# Altium integrated library NSC Switch Caps.IntLib: 64 symbols (part 1 of 2)
Pins are listed as number, name and electrical type; pins without a type are passive.

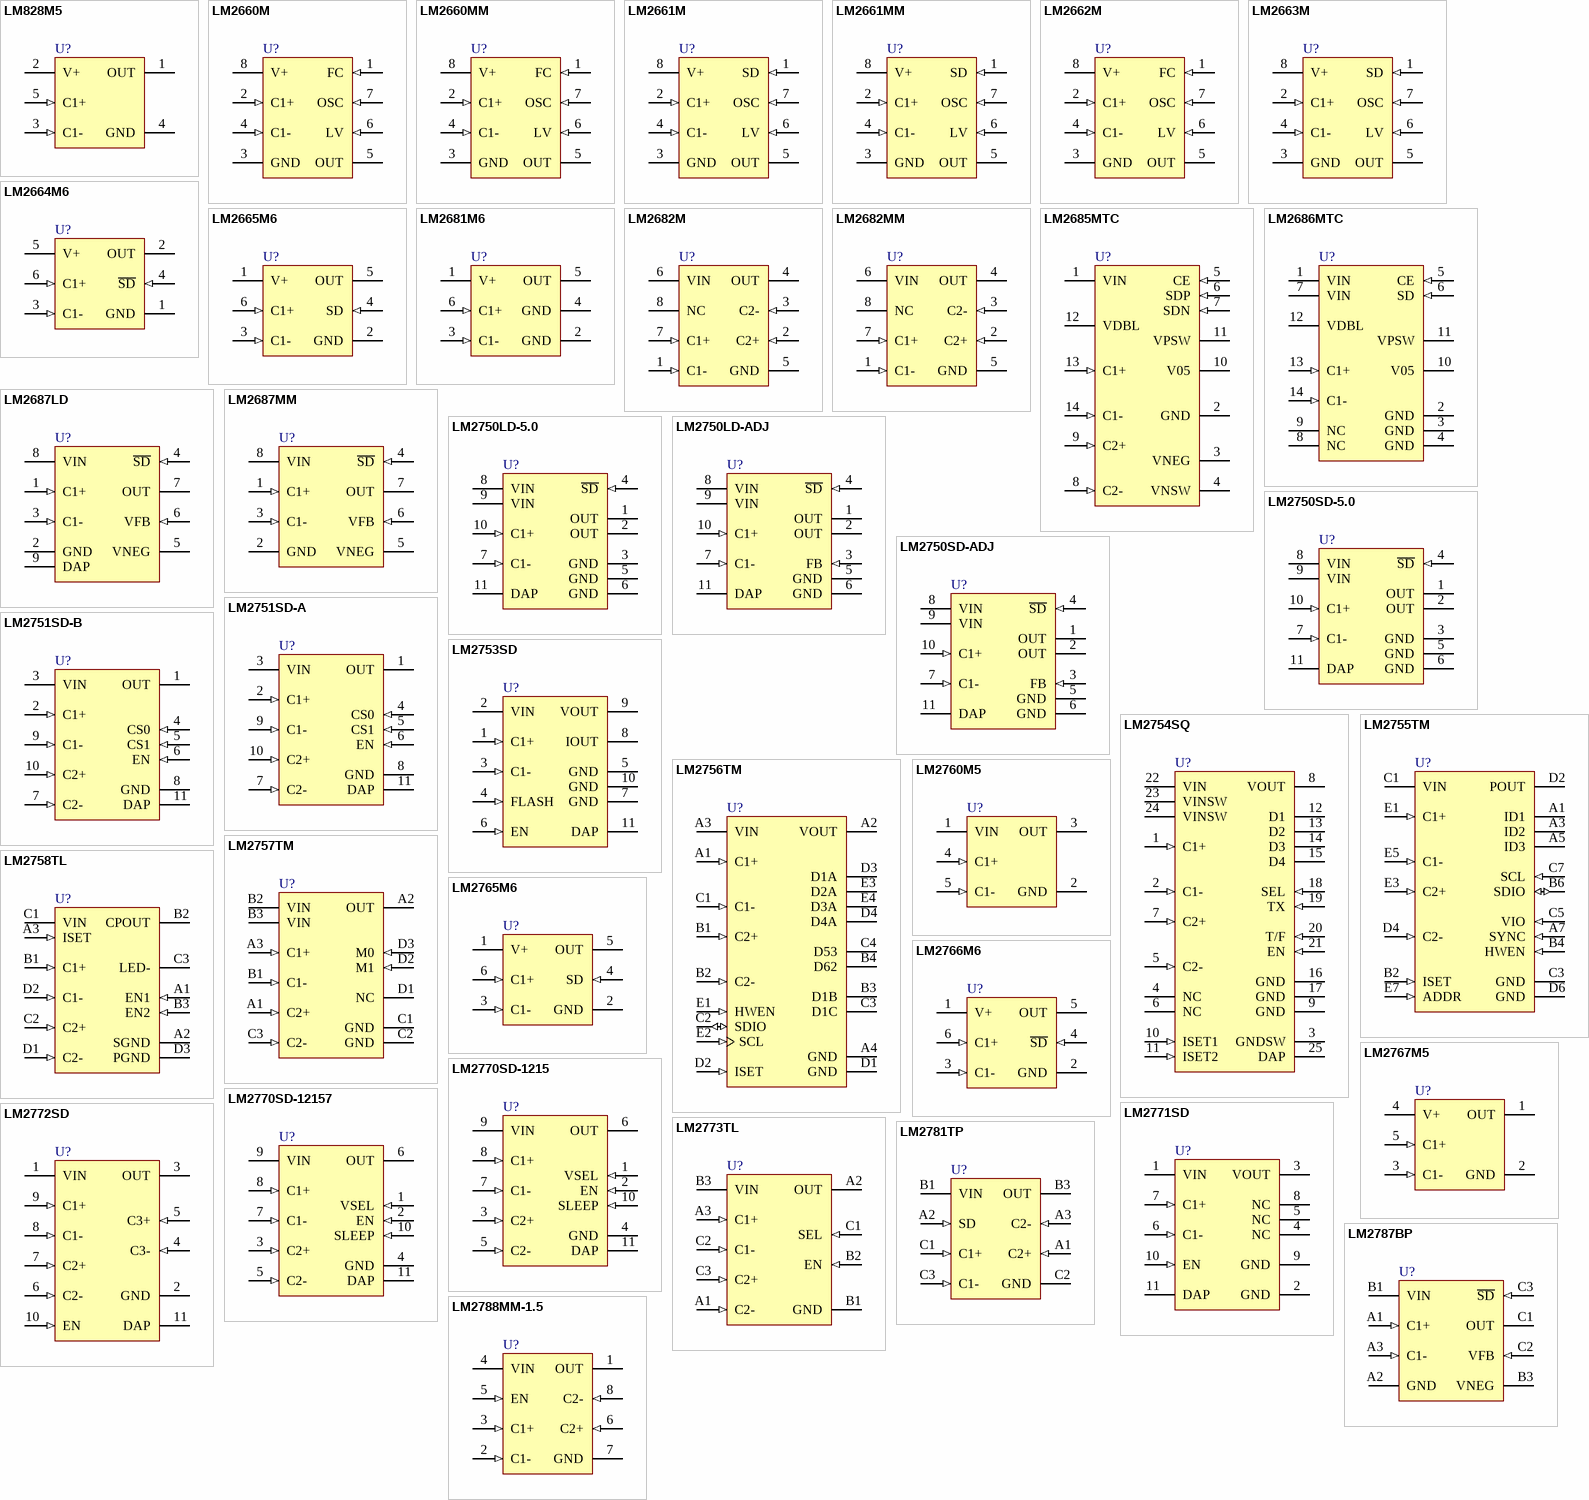
[diagram p0: symbols LM828M5 to LM2788MM-1.5]

## LM828M5
designator U?
Switched Capacitor Voltage Converter; PartNumber: LM828M5; Manufacturer: National Semiconductor; CompType: Switch Caps; PackageTopMarking: S08A*XTT; PowerWise: N; Published: 4-Dec-2008; DatasheetVersion: Jul-2000; PackageVersion: revD, Aug-2008; PackageReference: MF05A; Publisher: Altium Limited; PackageDescription: Molded SOT-23, .115 x .063 x .040 in Body, 5 Lead, .0375 in Pitch; RoHS: O; PinCount: 5; DigiKeyPartNumber: LM828M5CT-ND; Code_IPC: SOT23-5; ComponentLink1Description: LM828 Datasheet; ComponentLink1URL: http://www.national.com/ds/LM/LM828.pdf; ComponentLink2Description: LM828 Web Page; ComponentLink2URL: http://www.national.com/pf/LM/LM828.html; ComponentLink3Description: MF05A Package Page; ComponentLink3URL: http://www.national.com/packaging/folders/mf05a.html
footprint MF05A_N (SOT23, 5-Leads, Body 2.9x1.6mm, Pitch 0.95mm, Lead Span 2.8mm, IPC Medium Density)
footprint MF05A_L (SOT23, 5-Leads, Body 2.9x1.6mm, Pitch 0.95mm, Lead Span 2.8mm, IPC High Density)
footprint MF05A_M (SOT23, 5-Leads, Body 2.9x1.6mm, Pitch 0.95mm, Lead Span 2.8mm, IPC Low Density)
pins: 1 OUT (power), 2 V+ (power), 3 C1- (in), 4 GND (power), 5 C1+ (in)

## LM2660M
designator U?
Switched Capacitor Voltage Converter; PartNumber: LM2660M; Manufacturer: National Semiconductor; CompType: Switch Caps; PackageTopMarking: NSZXTT*LM26*60M; PowerWise: N; Published: 4-Dec-2008; DatasheetVersion: Sep-1999; PackageVersion: revL, Sep-2006; PackageReference: M08A; Publisher: Altium Limited; PackageDescription: SOIC Narrow, 4.9 x 3.9 x 1.45mm, 8 Lead, 1.27mm Pitch; RoHS: O; PinCount: 8; DigiKeyPartNumber: LM2660M-ND; Code_JEDEC: MS-012-AA; Code_IPC: SOIC127P600-8; ComponentLink1Description: LM2660 Datasheet; ComponentLink1URL: http://www.national.com/ds/LM/LM2660.pdf; ComponentLink2Description: LM2660 Web Page; ComponentLink2URL: http://www.national.com/pf/LM/LM2660.html; ComponentLink3Description: M08A Package Page; ComponentLink3URL: http://www.national.com/packaging/folders/m08a.html
footprint M08A_N (SOIC, 8-Leads, Body 4.9x3.9mm, Pitch 1.27mm, IPC Medium Density)
footprint M08A_L (SOIC, 8-Leads, Body 4.9x3.9mm, Pitch 1.27mm, IPC High Density)
footprint M08A_M (SOIC, 8-Leads, Body 4.9x3.9mm, Pitch 1.27mm, IPC Low Density)
pins: 1 FC (in), 2 C1+ (in), 3 GND (power), 4 C1- (in), 5 OUT (power), 6 LV (in), 7 OSC (in), 8 V+ (power)

## LM2660MM
designator U?
Switched Capacitor Voltage Converter; PartNumber: LM2660MM; Manufacturer: National Semiconductor; CompType: Switch Caps; PackageTopMarking: ZXTT*S01A; PowerWise: N; Published: 4-Dec-2008; DatasheetVersion: Sep-1999; PackageVersion: revF, Apr-2008; PackageReference: MUA08A; Publisher: Altium Limited; PackageDescription: MINI SOIC, .118 x .118 x .034in, 8 Lead, .0256in Pitch; RoHS: O; PinCount: 8; DigiKeyPartNumber: LM2660MMCT-ND; Code_JEDEC: MO-187-AA; ComponentLink1Description: LM2660 Datasheet; ComponentLink1URL: http://www.national.com/ds/LM/LM2660.pdf; ComponentLink2Description: LM2660 Web Page; ComponentLink2URL: http://www.national.com/pf/LM/LM2660.html; ComponentLink3Description: MUA08A Package Page; ComponentLink3URL: http://www.national.com/packaging/folders/mua08a.html
footprint MUA08A_N (TSOP, 8-Leads, Body 3x3mm, Pitch 0.65mm, IPC Medium Density)
footprint MUA08A_L (TSOP, 8-Leads, Body 3x3mm, Pitch 0.65mm, IPC High Density)
footprint MUA08A_M (TSOP, 8-Leads, Body 3x3mm, Pitch 0.65mm, IPC Low Density)
pins: 1 FC (in), 2 C1+ (in), 3 GND (power), 4 C1- (in), 5 OUT (power), 6 LV (in), 7 OSC (in), 8 V+ (power)

## LM2661M
designator U?
Switched Capacitor Voltage Converter; PartNumber: LM2661M; Manufacturer: National Semiconductor; CompType: Switch Caps; PackageTopMarking: NSZXTT*LM26*61M; PowerWise: N; Published: 4-Dec-2008; DatasheetVersion: Sep-1999; PackageVersion: revL, Sep-2006; PackageReference: M08A; Publisher: Altium Limited; PackageDescription: SOIC Narrow, 4.9 x 3.9 x 1.45mm, 8 Lead, 1.27mm Pitch; RoHS: O; PinCount: 8; DigiKeyPartNumber: LM2661M-ND; Code_JEDEC: MS-012-AA; Code_IPC: SOIC127P600-8; ComponentLink1Description: LM2661 Datasheet; ComponentLink1URL: http://www.national.com/ds/LM/LM2661.pdf; ComponentLink2Description: LM2661 Web Page; ComponentLink2URL: http://www.national.com/pf/LM/LM2661.html; ComponentLink3Description: M08A Package Page; ComponentLink3URL: http://www.national.com/packaging/folders/m08a.html
footprint M08A_N (SOIC, 8-Leads, Body 4.9x3.9mm, Pitch 1.27mm, IPC Medium Density)
footprint M08A_L (SOIC, 8-Leads, Body 4.9x3.9mm, Pitch 1.27mm, IPC High Density)
footprint M08A_M (SOIC, 8-Leads, Body 4.9x3.9mm, Pitch 1.27mm, IPC Low Density)
pins: 1 SD (in), 2 C1+ (in), 3 GND (power), 4 C1- (in), 5 OUT (power), 6 LV (in), 7 OSC (in), 8 V+ (power)

## LM2661MM
designator U?
Switched Capacitor Voltage Converter; PartNumber: LM2661MM; Manufacturer: National Semiconductor; CompType: Switch Caps; PackageTopMarking: ZXTT*S02A; PowerWise: N; Published: 4-Dec-2008; DatasheetVersion: Sep-1999; PackageVersion: revF, Apr-2008; PackageReference: MUA08A; Publisher: Altium Limited; PackageDescription: MINI SOIC, .118 x .118 x .034in, 8 Lead, .0256in Pitch; RoHS: O; PinCount: 8; DigiKeyPartNumber: LM2661MMCT-ND; Code_JEDEC: MO-187-AA; ComponentLink1Description: LM2661 Datasheet; ComponentLink1URL: http://www.national.com/ds/LM/LM2661.pdf; ComponentLink2Description: LM2661 Web Page; ComponentLink2URL: http://www.national.com/pf/LM/LM2661.html; ComponentLink3Description: MUA08A Package Page; ComponentLink3URL: http://www.national.com/packaging/folders/mua08a.html
footprint MUA08A_N (TSOP, 8-Leads, Body 3x3mm, Pitch 0.65mm, IPC Medium Density)
footprint MUA08A_L (TSOP, 8-Leads, Body 3x3mm, Pitch 0.65mm, IPC High Density)
footprint MUA08A_M (TSOP, 8-Leads, Body 3x3mm, Pitch 0.65mm, IPC Low Density)
pins: 1 SD (in), 2 C1+ (in), 3 GND (power), 4 C1- (in), 5 OUT (power), 6 LV (in), 7 OSC (in), 8 V+ (power)

## LM2662M
designator U?
Switched Capacitor Voltage Converter; PartNumber: LM2662M; Manufacturer: National Semiconductor; CompType: Switch Caps; PackageTopMarking: NSZXTT*LM26*62M; PowerWise: N; Published: 4-Dec-2008; DatasheetVersion: Jun-2008; PackageVersion: revL, Sep-2006; PackageReference: M08A; Publisher: Altium Limited; PackageDescription: SOIC Narrow, 4.9 x 3.9 x 1.45mm, 8 Lead, 1.27mm Pitch; RoHS: O; PinCount: 8; DigiKeyPartNumber: LM2662M-ND; Code_JEDEC: MS-012-AA; Code_IPC: SOIC127P600-8; ComponentLink1Description: LM2662 Datasheet; ComponentLink1URL: http://www.national.com/ds/LM/LM2662.pdf; ComponentLink2Description: LM2662 Web Page; ComponentLink2URL: http://www.national.com/pf/LM/LM2662.html; ComponentLink3Description: M08A Package Page; ComponentLink3URL: http://www.national.com/packaging/folders/m08a.html
footprint M08A_N (SOIC, 8-Leads, Body 4.9x3.9mm, Pitch 1.27mm, IPC Medium Density)
footprint M08A_L (SOIC, 8-Leads, Body 4.9x3.9mm, Pitch 1.27mm, IPC High Density)
footprint M08A_M (SOIC, 8-Leads, Body 4.9x3.9mm, Pitch 1.27mm, IPC Low Density)
pins: 1 FC (in), 2 C1+ (in), 3 GND (power), 4 C1- (in), 5 OUT (power), 6 LV (in), 7 OSC (in), 8 V+ (power)

## LM2663M
designator U?
Switched Capacitor Voltage Converter; PartNumber: LM2663M; Manufacturer: National Semiconductor; CompType: Switch Caps; PackageTopMarking: NSZXTT*LM26*63M; PowerWise: N; Published: 4-Dec-2008; DatasheetVersion: Jun-2008; PackageVersion: revL, Sep-2006; PackageReference: M08A; Publisher: Altium Limited; PackageDescription: SOIC Narrow, 4.9 x 3.9 x 1.45mm, 8 Lead, 1.27mm Pitch; RoHS: O; PinCount: 8; DigiKeyPartNumber: LM2663M-ND; Code_JEDEC: MS-012-AA; Code_IPC: SOIC127P600-8; ComponentLink1Description: LM2663 Datasheet; ComponentLink1URL: http://www.national.com/ds/LM/LM2662.pdf; ComponentLink2Description: LM2663 Web Page; ComponentLink2URL: http://www.national.com/pf/LM/LM2663.html; ComponentLink3Description: M08A Package Page; ComponentLink3URL: http://www.national.com/packaging/folders/m08a.html
footprint M08A_N (SOIC, 8-Leads, Body 4.9x3.9mm, Pitch 1.27mm, IPC Medium Density)
footprint M08A_L (SOIC, 8-Leads, Body 4.9x3.9mm, Pitch 1.27mm, IPC High Density)
footprint M08A_M (SOIC, 8-Leads, Body 4.9x3.9mm, Pitch 1.27mm, IPC Low Density)
pins: 1 SD (in), 2 C1+ (in), 3 GND (power), 4 C1- (in), 5 OUT (power), 6 LV (in), 7 OSC (in), 8 V+ (power)

## LM2664M6
designator U?
Switched Capacitor Voltage Converter; PartNumber: LM2664M6; Manufacturer: National Semiconductor; CompType: Switch Caps; PackageTopMarking: S03A*XTT; PowerWise: N; Published: 4-Dec-2008; DatasheetVersion: Sep-2005; PackageVersion: revC, Sep-2005; PackageReference: MF06A; Publisher: Altium Limited; PackageDescription: Molded SOT-23, .115 x .063 x .040in Body, 6 Lead, .0375in in Pitch; RoHS: O; PinCount: 6; DigiKeyPartNumber: LM2664M6CT-ND; Code_JEDEC: MO-178-AB; Code_IPC: SOT26A-6; ComponentLink1Description: LM2664 Datasheet; ComponentLink1URL: http://www.national.com/ds/LM/LM2664.pdf; ComponentLink2Description: LM2664 Web Page; ComponentLink2URL: http://www.national.com/pf/LM/LM2664.html; ComponentLink3Description: MF06A Package Page; ComponentLink3URL: http://www.national.com/packaging/folders/mf06a.html
footprint MF06A_N (SOT23, 6-Leads, Body 2.9x1.6mm, Pitch 0.95mm, Lead Span 2.8mm, IPC Medium Density)
footprint MF06A_L (SOT23, 6-Leads, Body 2.9x1.6mm, Pitch 0.95mm, Lead Span 2.8mm, IPC High Density)
footprint MF06A_M (SOT23, 6-Leads, Body 2.9x1.6mm, Pitch 0.95mm, Lead Span 2.8mm, IPC Low Density)
pins: 1 GND (power), 2 OUT (power), 3 C1- (in), 4 ~{SD} (in), 5 V+ (power), 6 C1+ (in)

## LM2665M6
designator U?
Switched Capacitor Voltage Converter; PartNumber: LM2665M6; Manufacturer: National Semiconductor; CompType: Switch Caps; PackageTopMarking: S04A*XTT; PowerWise: N; Published: 4-Dec-2008; DatasheetVersion: Sep-2005; PackageVersion: revC, Sep-2005; PackageReference: MF06A; Publisher: Altium Limited; PackageDescription: Molded SOT-23, .115 x .063 x .040in Body, 6 Lead, .0375in in Pitch; RoHS: Y; PinCount: 6; DigiKeyPartNumber: LM2665M6CT-ND; Code_JEDEC: MO-178-AB; Code_IPC: SOT26A-6; ComponentLink1Description: LM2665 Datasheet; ComponentLink1URL: http://www.national.com/ds/LM/LM2665.pdf; ComponentLink2Description: LM2665 Web Page; ComponentLink2URL: http://www.national.com/pf/LM/LM2665.html; ComponentLink3Description: MF06A Package Page; ComponentLink3URL: http://www.national.com/packaging/folders/mf06a.html
footprint MF06A_N (SOT23, 6-Leads, Body 2.9x1.6mm, Pitch 0.95mm, Lead Span 2.8mm, IPC Medium Density)
footprint MF06A_L (SOT23, 6-Leads, Body 2.9x1.6mm, Pitch 0.95mm, Lead Span 2.8mm, IPC High Density)
footprint MF06A_M (SOT23, 6-Leads, Body 2.9x1.6mm, Pitch 0.95mm, Lead Span 2.8mm, IPC Low Density)
pins: 1 V+ (power), 2 GND (power), 3 C1- (in), 4 SD (in), 5 OUT (power), 6 C1+ (in)

## LM2681M6
designator U?
Switched Capacitor Voltage Converter; PartNumber: LM2681M6; Manufacturer: National Semiconductor; CompType: Switch Caps; PackageTopMarking: S10A*XTT; PowerWise: N; Published: 4-Dec-2008; DatasheetVersion: Jan-2003; PackageVersion: revC, Sep-2005; PackageReference: MF06A; Publisher: Altium Limited; PackageDescription: Molded SOT-23, .115 x .063 x .040in Body, 6 Lead, .0375in in Pitch; RoHS: O; PinCount: 6; DigiKeyPartNumber: LM2681M6CT-ND; Code_JEDEC: MO-178-AB; Code_IPC: SOT26A-6; ComponentLink1Description: LM2681 Datasheet; ComponentLink1URL: http://www.national.com/ds/LM/LM2681.pdf; ComponentLink2Description: LM2681 Web Page; ComponentLink2URL: http://www.national.com/pf/LM/LM2681.html; ComponentLink3Description: MF06A Package Page; ComponentLink3URL: http://www.national.com/packaging/folders/mf06a.html
footprint MF06A_N (SOT23, 6-Leads, Body 2.9x1.6mm, Pitch 0.95mm, Lead Span 2.8mm, IPC Medium Density)
footprint MF06A_L (SOT23, 6-Leads, Body 2.9x1.6mm, Pitch 0.95mm, Lead Span 2.8mm, IPC High Density)
footprint MF06A_M (SOT23, 6-Leads, Body 2.9x1.6mm, Pitch 0.95mm, Lead Span 2.8mm, IPC Low Density)
pins: 1 V+ (power), 2 GND (power), 3 C1- (in), 4 GND (power), 5 OUT (power), 6 C1+ (in)

## LM2682M
designator U?
Switched Capacitor Voltage Doubling Inverter; PartNumber: LM2682M; Manufacturer: National Semiconductor; CompType: Switch Caps; PackageTopMarking: NSZXTT*LM26*82M; Published: 4-Dec-2008; DatasheetVersion: Nov-1999; PackageVersion: revL, Sep-2006; PackageReference: M08A; Publisher: Altium Limited; PackageDescription: SOIC Narrow, 4.9 x 3.9 x 1.45mm, 8 Lead, 1.27mm Pitch; RoHS: Y; PinCount: 8; DigiKeyPartNumber: LM2682M-ND; Code_JEDEC: MS-012-AA; Code_IPC: SOIC127P600-8; ComponentLink1Description: LM2682 Datasheet; ComponentLink1URL: http://www.national.com/ds/LM/LM2682.pdf; ComponentLink2Description: LM2682 Web Page; ComponentLink2URL: http://www.national.com/pf/LM/LM2682.html; ComponentLink3Description: M08A Package Page; ComponentLink3URL: http://www.national.com/packaging/folders/m08a.html
footprint M08A_N (SOIC, 8-Leads, Body 4.9x3.9mm, Pitch 1.27mm, IPC Medium Density)
footprint M08A_L (SOIC, 8-Leads, Body 4.9x3.9mm, Pitch 1.27mm, IPC High Density)
footprint M08A_M (SOIC, 8-Leads, Body 4.9x3.9mm, Pitch 1.27mm, IPC Low Density)
pins: 1 C1- (in), 2 C2+ (in), 3 C2- (in), 4 OUT (power), 5 GND (power), 6 VIN (power), 7 C1+ (in), 8 NC

## LM2682MM
designator U?
Switched Capacitor Voltage Doubling Inverter; PartNumber: LM2682MM; Manufacturer: National Semiconductor; CompType: Switch Caps; PackageTopMarking: ZXTT*S11A; PowerWise: N; Published: 4-Dec-2008; DatasheetVersion: Nov-1999; PackageVersion: revF, Apr-2008; PackageReference: MUA08A; Publisher: Altium Limited; PackageDescription: MINI SOIC, .118 x .118 x .034in, 8 Lead, .0256in Pitch; RoHS: O; PinCount: 8; DigiKeyPartNumber: LM2682MMCT-ND; Code_JEDEC: MO-187-AA; ComponentLink1Description: LM2682 Datasheet; ComponentLink1URL: http://www.national.com/ds/LM/LM2682.pdf; ComponentLink2Description: LM2682 Web Page; ComponentLink2URL: http://www.national.com/pf/LM/LM2682.html; ComponentLink3Description: MUA08A Package Page; ComponentLink3URL: http://www.national.com/packaging/folders/mua08a.html
footprint MUA08A_N (TSOP, 8-Leads, Body 3x3mm, Pitch 0.65mm, IPC Medium Density)
footprint MUA08A_L (TSOP, 8-Leads, Body 3x3mm, Pitch 0.65mm, IPC High Density)
footprint MUA08A_M (TSOP, 8-Leads, Body 3x3mm, Pitch 0.65mm, IPC Low Density)
pins: 1 C1- (in), 2 C2+ (in), 3 C2- (in), 4 OUT (power), 5 GND (power), 6 VIN (power), 7 C1+ (in), 8 NC

## LM2685MTC
designator U?
Dual Output Regulated Switched Capacitor Voltage Converter; PartNumber: LM2685MTC; Manufacturer: National Semiconductor; CompType: Switch Caps; PackageTopMarking: NSXYTT*LM2685*MTC; PowerWise: N; Published: 4-Dec-2008; DatasheetVersion: May-2000; PackageVersion: revD, Jun-2003; PackageReference: MTC14; Publisher: Altium Limited; PackageDescription: Molded TSSOP, JEDEC, 5 x 4.4 x 0.9mm Body, 14 Lead, 0.65mm Pitch; RoHS: Y; PinCount: 14; DigiKeyPartNumber: LM2685MTC-ND; Code_JEDEC: MO-153-AB-1; ComponentLink1Description: LM2685 Datasheet; ComponentLink1URL: http://www.national.com/ds/LM/LM2685.pdf; ComponentLink2Description: LM2685 Web Page; ComponentLink2URL: http://www.national.com/pf/LM/LM2685.html; ComponentLink3Description: MTC14 Package Page; ComponentLink3URL: http://www.national.com/packaging/folders/mtc14.html
footprint MTC14_N (TSOP, 14-Leads, Body 5x4.4mm, Pitch 0.65mm, IPC Medium Density)
footprint MTC14_L (TSOP, 14-Leads, Body 5x4.4mm, Pitch 0.65mm, IPC High Density)
footprint MTC14_M (TSOP, 14-Leads, Body 5x4.4mm, Pitch 0.65mm, IPC Low Density)
pins: 1 VIN (power), 2 GND (power), 3 VNEG (power), 4 VNSW (power), 5 CE (in), 6 SDP (in), 7 SDN (in), 8 C2- (in), 9 C2+ (in), 10 V05 (power), 11 VPSW (power), 12 VDBL (power), 13 C1+ (in), 14 C1- (in)

## LM2686MTC
designator U?
Regulated Switched Capacitor Voltage Converter; PartNumber: LM2686MTC; Manufacturer: National Semiconductor; CompType: Switch Caps; PackageTopMarking: NSXYTT*LM2686*MTC; PowerWise: N; Published: 4-Dec-2008; DatasheetVersion: Nov-1999; PackageVersion: revD, Jun-2003; PackageReference: MTC14; Publisher: Altium Limited; PackageDescription: Molded TSSOP, JEDEC, 5 x 4.4 x 0.9mm Body, 14 Lead, 0.65mm Pitch; RoHS: Y; PinCount: 14; DigiKeyPartNumber: LM2686MTC-ND; Code_JEDEC: MO-153-AB-1; ComponentLink1Description: LM2686 Datasheet; ComponentLink1URL: http://www.national.com/ds/LM/LM2686.pdf; ComponentLink2Description: LM2686 Web Page; ComponentLink2URL: http://www.national.com/pf/LM/LM2686.html; ComponentLink3Description: MTC14 Package Page; ComponentLink3URL: http://www.national.com/packaging/folders/mtc14.html
footprint MTC14_N (TSOP, 14-Leads, Body 5x4.4mm, Pitch 0.65mm, IPC Medium Density)
footprint MTC14_L (TSOP, 14-Leads, Body 5x4.4mm, Pitch 0.65mm, IPC High Density)
footprint MTC14_M (TSOP, 14-Leads, Body 5x4.4mm, Pitch 0.65mm, IPC Low Density)
pins: 1 VIN (power), 2 GND (power), 3 GND (power), 4 GND (power), 5 CE (in), 6 SD (in), 7 VIN (power), 8 NC, 9 NC, 10 V05 (power), 11 VPSW (power), 12 VDBL (power), 13 C1+ (in), 14 C1- (in)

## LM2687LD
designator U?
Low Noise Regulated Switched Capacitor Voltage Inverter; PartNumber: LM2687LD; Manufacturer: National Semiconductor; CompType: Switch Caps; PackageTopMarking: ZXYTT*L050B; Published: 4-Dec-2008; DatasheetVersion: Apr-2003; PackageVersion: revC, Nov-2002; PackageReference: LDA08A; Publisher: Altium Limited; PackageDescription: LLP, Plastic, Dual, 3 x 3 x 0.75mm Body, 8 Lead, 0.5mm Pitch; RoHS: Y; PinCount: 8; DigiKeyPartNumber: LM2687LDCT-ND; ComponentLink1Description: LM2687 Datasheet; ComponentLink1URL: http://www.national.com/ds/LM/LM2687.pdf; ComponentLink2Description: LM2687 Web Page; ComponentLink2URL: http://www.national.com/pf/LM/LM2687.html; ComponentLink3Description: LDA08A Package Page; ComponentLink3URL: http://www.national.com/packaging/folders/lda08a.html
footprint LDA08A (PSON, 8-Leads, Body 3x3mm, Pitch 0.5mm, NSC Recommended)
pins: 1 C1+ (in), 2 GND (power), 3 C1- (in), 4 ~{SD} (in), 5 VNEG (power), 6 VFB (in), 7 OUT (power), 8 VIN (power), 9 DAP (power)

## LM2687MM
designator U?
Low Noise Regulated Switched Capacitor Voltage Inverter; PartNumber: LM2687MM; Manufacturer: National Semiconductor; CompType: Switch Caps; PackageTopMarking: ZXTT*S12A; PowerWise: N; Published: 4-Dec-2008; DatasheetVersion: Apr-2003; PackageVersion: revF, Apr-2008; PackageReference: MUA08A; Publisher: Altium Limited; PackageDescription: MINI SOIC, .118 x .118 x .034in, 8 Lead, .0256in Pitch; RoHS: O; PinCount: 8; DigiKeyPartNumber: LM2687MMCT-ND; Code_JEDEC: MO-187-AA; ComponentLink1Description: LM2687 Datasheet; ComponentLink1URL: http://www.national.com/ds/LM/LM2687.pdf; ComponentLink2Description: LM2687 Web Page; ComponentLink2URL: http://www.national.com/pf/LM/LM2687.html; ComponentLink3Description: MUA08A Package Page; ComponentLink3URL: http://www.national.com/packaging/folders/mua08a.html
footprint MUA08A_N (TSOP, 8-Leads, Body 3x3mm, Pitch 0.65mm, IPC Medium Density)
footprint MUA08A_L (TSOP, 8-Leads, Body 3x3mm, Pitch 0.65mm, IPC High Density)
footprint MUA08A_M (TSOP, 8-Leads, Body 3x3mm, Pitch 0.65mm, IPC Low Density)
pins: 1 C1+ (in), 2 GND (power), 3 C1- (in), 4 ~{SD} (in), 5 VNEG (power), 6 VFB (in), 7 OUT (power), 8 VIN (power)

## LM2750LD-5.0
designator U?
Low Noise Regulator Switched Capacitor Boost Regulator; PartNumber: LM2750LD-5.0; Manufacturer: National Semiconductor; CompType: Switch Caps; PackageTopMarking: ZXYTT*S002B; PowerWise: N; Published: 4-Dec-2008; DatasheetVersion: Dec-2005; PackageVersion: revB, Jan-2003; PackageReference: LDA10A; Publisher: Altium Limited; PackageDescription: LLP, Plastic, Dual, 3 x 3 x 0.75mm Body, 10 Lead, 0.5mm Pitch; RoHS: O; PinCount: 10; DigiKeyPartNumber: LM2750LD-5.0CT-ND; ComponentLink1Description: LM2750 Datasheet; ComponentLink1URL: http://www.national.com/ds/LM/LM2750.pdf; ComponentLink2Description: LM2750 Web Page; ComponentLink2URL: http://www.national.com/pf/LM/LM2750.html; ComponentLink3Description: LDA10A Package Page; ComponentLink3URL: http://www.national.com/packaging/folders/lda10a.html
footprint LDA10A (PSON, 10-Leads, Body 3x3mm, Pitch 0.5mm, NSC Recommended)
pins: 1 OUT (power), 2 OUT (power), 3 GND (power), 4 ~{SD} (in), 5 GND (power), 6 GND (power), 7 C1- (in), 8 VIN (power), 9 VIN (power), 10 C1+ (in), 11 DAP (power)

## LM2750LD-ADJ
designator U?
Low Noise Regulator Switched Capacitor Boost Regulator; PartNumber: LM2750LD-ADJ; Manufacturer: National Semiconductor; CompType: Switch Caps; PackageTopMarking: ZXYTT*S003B; PowerWise: N; Published: 4-Dec-2008; DatasheetVersion: Dec-2005; PackageVersion: revB, Jan-2003; PackageReference: LDA10A; Publisher: Altium Limited; PackageDescription: LLP, Plastic, Dual, 3 x 3 x 0.75mm Body, 10 Lead, 0.5mm Pitch; RoHS: O; PinCount: 10; DigiKeyPartNumber: LM2750LD-ADJCT-ND; ComponentLink1Description: LM2750 Datasheet; ComponentLink1URL: http://www.national.com/ds/LM/LM2750.pdf; ComponentLink2Description: LM2750 Web Page; ComponentLink2URL: http://www.national.com/pf/LM/LM2750.html; ComponentLink3Description: LDA10A Package Page; ComponentLink3URL: http://www.national.com/packaging/folders/lda10a.html
footprint LDA10A (PSON, 10-Leads, Body 3x3mm, Pitch 0.5mm, NSC Recommended)
pins: 1 OUT (power), 2 OUT (power), 3 FB (in), 4 ~{SD} (in), 5 GND (power), 6 GND (power), 7 C1- (in), 8 VIN (power), 9 VIN (power), 10 C1+ (in), 11 DAP (power)

## LM2750SD-5.0
designator U?
Low Noise Regulator Switched Capacitor Boost Regulator; PartNumber: LM2750SD-5.0; Manufacturer: National Semiconductor; CompType: Switch Caps; PackageTopMarking: ZXYTT*S005B; PowerWise: N; Published: 4-Dec-2008; DatasheetVersion: Dec-2005; PackageVersion: revA, Oct-2003; PackageReference: SDA10A; Publisher: Altium Limited; PackageDescription: LLP, Plastic, Dual, 3 x 3 x 0.8mm Body, 10 Lead, 0.5mm Pitch, No Pullback; RoHS: O; PinCount: 10; DigiKeyPartNumber: LM2750SD-5.0CT-ND; ComponentLink1Description: LM2750 Datasheet; ComponentLink1URL: http://www.national.com/ds/LM/LM2750.pdf; ComponentLink2Description: LM2750 Web Page; ComponentLink2URL: http://www.national.com/pf/LM/LM2750.html; ComponentLink3Description: SDA10A Package Page; ComponentLink3URL: http://www.national.com/packaging/folders/sda10a.html
footprint SDA10A (SON, 10-Leads, Body 3x3 mm, Pitch 0.5mm, NSC Recommended)
pins: 1 OUT (power), 2 OUT (power), 3 GND (power), 4 ~{SD} (in), 5 GND (power), 6 GND (power), 7 C1- (in), 8 VIN (power), 9 VIN (power), 10 C1+ (in), 11 DAP (power)

## LM2750SD-ADJ
designator U?
Low Noise Regulator Switched Capacitor Boost Regulator; PartNumber: LM2750SD-ADJ; Manufacturer: National Semiconductor; CompType: Switch Caps; PackageTopMarking: ZXYTT*S004B; PowerWise: N; Published: 4-Dec-2008; DatasheetVersion: Dec-2005; PackageVersion: revA, Oct-2003; PackageReference: SDA10A; Publisher: Altium Limited; PackageDescription: LLP, Plastic, Dual, 3 x 3 x 0.8mm Body, 10 Lead, 0.5mm Pitch, No Pullback; RoHS: Y; PinCount: 10; DigiKeyPartNumber: LM2750SD-ADJCT-ND; ComponentLink1Description: LM2750 Datasheet; ComponentLink1URL: http://www.national.com/ds/LM/LM2750.pdf; ComponentLink2Description: LM2750 Web Page; ComponentLink2URL: http://www.national.com/pf/LM/LM2750.html; ComponentLink3Description: SDA10A Package Page; ComponentLink3URL: http://www.national.com/packaging/folders/sda10a.html
footprint SDA10A (SON, 10-Leads, Body 3x3 mm, Pitch 0.5mm, NSC Recommended)
pins: 1 OUT (power), 2 OUT (power), 3 FB (in), 4 ~{SD} (in), 5 GND (power), 6 GND (power), 7 C1- (in), 8 VIN (power), 9 VIN (power), 10 C1+ (in), 11 DAP (power)

## LM2751SD-A
designator U?
Regulated 2X, 1.5X Switched Capacitor White LED Driver; PartNumber: LM2751SD-A; Manufacturer: National Semiconductor; CompType: Switch Caps; PackageTopMarking: ZXYTT*L145B; PowerWise: N; Published: 4-Dec-2008; DatasheetVersion: Apr-2005; PackageVersion: revA, Oct-2003; PackageReference: SDA10A; Publisher: Altium Limited; PackageDescription: LLP, Plastic, Dual, 3 x 3 x 0.8mm Body, 10 Lead, 0.5mm Pitch, No Pullback; RoHS: Y; PinCount: 10; DigiKeyPartNumber: LM2751SD-ACT-ND; ComponentLink1Description: LM2751 Datasheet; ComponentLink1URL: http://www.national.com/ds/LM/LM2751.pdf; ComponentLink2Description: LM2751 Web Page; ComponentLink2URL: http://www.national.com/pf/LM/LM2751.html; ComponentLink3Description: SDA10A Package Page; ComponentLink3URL: http://www.national.com/packaging/folders/sda10a.html
footprint SDA10A (SON, 10-Leads, Body 3x3 mm, Pitch 0.5mm, NSC Recommended)
pins: 1 OUT (power), 2 C1+ (in), 3 VIN (power), 4 CS0 (in), 5 CS1 (in), 6 EN (in), 7 C2- (in), 8 GND (power), 9 C1- (in), 10 C2+ (in), 11 DAP (power)

## LM2751SD-B
designator U?
Regulated 2X, 1.5X Switched Capacitor White LED Driver; PartNumber: LM2751SD-B; Manufacturer: National Semiconductor; CompType: Switch Caps; PackageTopMarking: ZXYTT*L146B; PowerWise: N; Published: 4-Dec-2008; DatasheetVersion: Apr-2005; PackageVersion: revA, Oct-2003; PackageReference: SDA10A; Publisher: Altium Limited; PackageDescription: LLP, Plastic, Dual, 3 x 3 x 0.8mm Body, 10 Lead, 0.5mm Pitch, No Pullback; RoHS: Y; PinCount: 10; DigiKeyPartNumber: LM2751SD-BCT-ND; ComponentLink1Description: LM2751 Datasheet; ComponentLink1URL: http://www.national.com/ds/LM/LM2751.pdf; ComponentLink2Description: LM2751 Web Page; ComponentLink2URL: http://www.national.com/pf/LM/LM2751.html; ComponentLink3Description: SDA10A Package Page; ComponentLink3URL: http://www.national.com/packaging/folders/sda10a.html
footprint SDA10A (SON, 10-Leads, Body 3x3 mm, Pitch 0.5mm, NSC Recommended)
pins: 1 OUT (power), 2 C1+ (in), 3 VIN (power), 4 CS0 (in), 5 CS1 (in), 6 EN (in), 7 C2- (in), 8 GND (power), 9 C1- (in), 10 C2+ (in), 11 DAP (power)

## LM2753SD
designator U?
High Power Switched Capacitor Voltage Convertor/Flash LED Driver; PartNumber: LM2753SD; Manufacturer: National Semiconductor; CompType: Switch Caps; PackageTopMarking: ZXYTT*D004B; PowerWise: N; Published: 4-Dec-2008; DatasheetVersion: Nov-2006; PackageVersion: revA, Oct-2003; PackageReference: SDA10A; Publisher: Altium Limited; PackageDescription: LLP, Plastic, Dual, 3 x 3 x 0.8mm Body, 10 Lead, 0.5mm Pitch, No Pullback; RoHS: Y; PinCount: 10; DigiKeyPartNumber: LM2753SDCT-ND; ComponentLink1Description: LM2753 Datasheet; ComponentLink1URL: http://www.national.com/ds/LM/LM2753.pdf; ComponentLink2Description: LM2753 Web Page; ComponentLink2URL: http://www.national.com/pf/LM/LM2753.html; ComponentLink3Description: SDA10A Package Page; ComponentLink3URL: http://www.national.com/packaging/folders/sda10a.html
footprint SDA10A (SON, 10-Leads, Body 3x3 mm, Pitch 0.5mm, NSC Recommended)
pins: 1 C1+ (in), 2 VIN (power), 3 C1- (in), 4 FLASH (in), 5 GND (power), 6 EN (in), 7 GND (power), 8 IOUT (power), 9 VOUT (power), 10 GND (power), 11 DAP (power)

## LM2754SQ
designator U?
800mA Switched Capacitor Flash LED Driver with Time-Out Protection; PartNumber: LM2754SQ; Manufacturer: National Semiconductor; CompType: Switch Caps; PackageTopMarking: NS*UZXYTT*LM2754; PowerWise: Y; Published: 4-Dec-2008; DatasheetVersion: Sep-2006; PackageVersion: revB, Aug-2003; PackageReference: SQA24A; Publisher: Altium Limited; PackageDescription: LLP, Plastic, Quad, 4 x 4 x 0.8mm Body, 24 Lead, 0.5mm Pitch, No Pullback; RoHS: Y; PinCount: 24; DigiKeyPartNumber: LM2754SQCT-ND; Code_JEDEC: MO-220-WGGD-6; ComponentLink1Description: LM2754 Datasheet; ComponentLink1URL: http://www.national.com/ds/LM/LM2754.pdf; ComponentLink2Description: LM2754 Web Page; ComponentLink2URL: http://www.national.com/pf/LM/LM2754.html; ComponentLink3Description: SQA24A Package Page; ComponentLink3URL: http://www.national.com/packaging/folders/sqa24a.html
footprint SQA24A (QFN, 24-Leads, Body 4x4mm, Pitch 0.5mm, NSC Recommended)
pins: 1 C1+ (in), 2 C1- (in), 3 GNDSW (power), 4 NC, 5 C2- (in), 6 NC, 7 C2+ (in), 8 VOUT (power), 9 GND (power), 10 ISET1 (in), 11 ISET2 (in), 12 D1 (oc), 13 D2 (oc), 14 D3 (oc), 15 D4 (oc), 16 GND (power), 17 GND (power), 18 SEL (in), 19 TX (in), 20 T/F (in), 21 EN (in), 22 VIN (power), 23 VINSW (power), 24 VINSW (power), 25 DAP (power)

## LM2755TM
designator U?
Charge Pump LED Controller with I2C Compatible Interface in Micro SMD; PartNumber: LM2755TM; Manufacturer: National Semiconductor; CompType: Switch Caps; PackageTopMarking: XYTT*I D32; PowerWise: Y; Published: 4-Dec-2008; DatasheetVersion: Oct-2006; PackageVersion: revC, 2007; PackageReference: TMD18AAA; Publisher: Altium Limited; PackageDescription: Thin Micro SMD, 18 Bump, 0.4mm Pitch; RoHS: Y; PinCount: 18; DigiKeyPartNumber: LM2755TMCT-ND; ComponentLink1Description: LM2755 Datasheet; ComponentLink1URL: http://www.national.com/ds/LM/LM2755.pdf; ComponentLink2Description: LM2755 Web Page; ComponentLink2URL: http://www.national.com/pf/LM/LM2755.html; ComponentLink3Description: TMD18AAA Package Page; ComponentLink3URL: http://www.national.com/packaging/folders/tmd18aaa.html
footprint TMD18AAA (Micro SMD, 18-Leads, Body 1.81x1.62mm, Pitch 0.4mm, NSC Recommended)
pins: A1 ID1 (oc), A3 ID2 (oc), A5 ID3 (oc), A7 SYNC (in), B2 ISET (in), B4 HWEN (in), B6 SDIO (io), C1 VIN (power), C3 GND (power), C5 VIO (in), C7 SCL (in), D2 POUT (power), D4 C2- (in), D6 GND (power), E1 C1+ (in), E3 C2+ (in), E5 C1- (in), E7 ADDR (in)

## LM2756TM
designator U?
Multi-Display Inductorless LED Driver with 32 Exponential Dimming Steps in micro SMD; PartNumber: LM2756TM; Manufacturer: National Semiconductor; CompType: Switch Caps; PackageTopMarking: XYTT*I DK; PowerWise: Y; Published: 4-Dec-2008; DatasheetVersion: Dec-2007; PackageVersion: revD, 2007; PackageReference: TMD20AAA; Publisher: Altium Limited; PackageDescription: Thin Micro SMD, 20 Bump, 0.4mm Pitch; RoHS: Y; PinCount: 20; DigiKeyPartNumber: LM2756TMCT-ND; ComponentLink1Description: LM2756 Datasheet; ComponentLink1URL: http://www.national.com/ds/LM/LM2756.pdf; ComponentLink2Description: LM2756 Web Page; ComponentLink2URL: http://www.national.com/pf/LM/LM2756.html; ComponentLink3Description: TMD20AAA Package Page; ComponentLink3URL: http://www.national.com/packaging/folders/tmd20aaa.html
footprint TMD20AAA (Micro SMD, 20-Leads, Body 2.02x1.62mm, Pitch 0.4mm, NSC Recommended)
pins: A1 C1+ (in), A2 VOUT (power), A3 VIN (power), A4 GND (power), B1 C2+ (in), B2 C2- (in), B3 D1B (oc), B4 D62 (oc), C1 C1- (in), C2 SDIO (io), C3 D1C (oc), C4 D53 (oc), D1 GND (power), D2 ISET (in), D3 D1A (oc), D4 D4A (oc), E1 HWEN (in), E2 SCL (in), E3 D2A (oc), E4 D3A (oc)

## LM2757TM
designator U?
Switched Capacitor Boost Regulator with High Impedance Output in Shutdown; PartNumber: LM2757TM; Manufacturer: National Semiconductor; CompType: Switch Caps; PackageTopMarking: XV*I DL; PowerWise: Y; Published: 4-Dec-2008; DatasheetVersion: Dec-2007; PackageVersion: revA, 2008; PackageReference: TMD12AAA; Publisher: Altium Limited; PackageDescription: Thin Micro SMD, 12 Bump, 0.4mm Pitch; RoHS: Y; PinCount: 12; DigiKeyPartNumber: LM2757TMCT-ND; ComponentLink1Description: LM2757 Datasheet; ComponentLink1URL: http://www.national.com/ds/LM/LM2757.pdf; ComponentLink2Description: LM2757 Web Page; ComponentLink2URL: http://www.national.com/pf/LM/LM2757.html; ComponentLink3Description: TMD12AAA Package Page; ComponentLink3URL: http://www.national.com/packaging/folders/tmd12aaa.html
footprint TMD12AAA (Micro SMD, 12-Leads, Body 1.62x1.22mm, Pitch 0.4mm, NSC Recommended)
pins: A1 C2+ (in), A2 OUT (power), A3 C1+ (in), B1 C1- (in), B2 VIN (power), B3 VIN (power), C1 GND (power), C2 GND (power), C3 C2- (in), D1 NC, D2 M1 (in), D3 M0 (in)

## LM2758TL
designator U?
Switched Capacitor Flash LED Driver in Micro SMD; PartNumber: LM2758TL; Manufacturer: National Semiconductor; CompType: Switch Caps; PackageTopMarking: XYTT*I 2758; PowerWise: Y; Published: 4-Dec-2008; DatasheetVersion: Apr-2008; PackageVersion: revC, Jan-2004; PackageReference: TLA12AAA; Publisher: Altium Limited; PackageDescription: 12-Micro SMD 0.5mm Pitch; RoHS: Y; PinCount: 12; DigiKeyPartNumber: LM2758TLCT-ND; Code_JEDEC: MO-211-DE; ComponentLink1Description: LM2758 Datasheet; ComponentLink1URL: http://www.national.com/ds/LM/LM2758.pdf; ComponentLink2Description: LM2758 Web Page; ComponentLink2URL: http://www.national.com/pf/LM/LM2758.html; ComponentLink3Description: TLA12AAA Package Page; ComponentLink3URL: http://www.national.com/packaging/folders/tla12aaa.html
footprint TLA12AAA (Micro SMD, 12-Leads, Body 2.0x1.52mm, Pitch 0.5mm, NSC Recommended)
pins: A1 EN1 (in), A2 SGND (power), A3 ISET (in), B1 C1+ (in), B2 CPOUT (power), B3 EN2 (in), C1 VIN (power), C2 C2+ (in), C3 LED- (oc), D1 C2- (in), D2 C1- (in), D3 PGND (power)

## LM2760M5
designator U?
3.3V Regulated Switched Capacitor Voltage Converter; PartNumber: LM2760M5; Manufacturer: National Semiconductor; CompType: Switch Caps; PackageTopMarking: S19B*XTT; Published: 4-Dec-2008; DatasheetVersion: Dec-2002; PackageVersion: revD, Aug-2008; PackageReference: MF05A; Publisher: Altium Limited; PackageDescription: Molded SOT-23, .115 x .063 x .040 in Body, 5 Lead, .0375 in Pitch; RoHS: Y; PinCount: 5; DigiKeyPartNumber: LM2760M5CT-ND; Code_IPC: SOT23-5; ComponentLink1Description: LM2760 Datasheet; ComponentLink1URL: http://www.national.com/ds/LM/LM2760.pdf; ComponentLink2Description: LM2760 Web Page; ComponentLink2URL: http://www.national.com/pf/LM/LM2760.html; ComponentLink3Description: MF05A Package Page; ComponentLink3URL: http://www.national.com/packaging/folders/mf05a.html
footprint MF05A_N (SOT23, 5-Leads, Body 2.9x1.6mm, Pitch 0.95mm, Lead Span 2.8mm, IPC Medium Density)
footprint MF05A_L (SOT23, 5-Leads, Body 2.9x1.6mm, Pitch 0.95mm, Lead Span 2.8mm, IPC High Density)
footprint MF05A_M (SOT23, 5-Leads, Body 2.9x1.6mm, Pitch 0.95mm, Lead Span 2.8mm, IPC Low Density)
pins: 1 VIN (power), 2 GND (power), 3 OUT (power), 4 C1+ (in), 5 C1- (in)

## LM2765M6
designator U?
Switched Capacitor Voltage Converter; PartNumber: LM2765M6; Manufacturer: National Semiconductor; CompType: Switch Caps; PackageTopMarking: S15B*XTT; Published: 4-Dec-2008; DatasheetVersion: Mar-2000; PackageVersion: revC, Sep-2005; PackageReference: MF06A; Publisher: Altium Limited; PackageDescription: Molded SOT-23, .115 x .063 x .040in Body, 6 Lead, .0375in in Pitch; RoHS: O; PinCount: 6; DigiKeyPartNumber: LM2765M6CT-ND; Code_JEDEC: MO-178-AB; Code_IPC: SOT26A-6; ComponentLink1Description: LM2765 Datasheet; ComponentLink1URL: http://www.national.com/ds/LM/LM2765.pdf; ComponentLink2Description: LM2765 Web Page; ComponentLink2URL: http://www.national.com/pf/LM/LM2765.html; ComponentLink3Description: MF06A Package Page; ComponentLink3URL: http://www.national.com/packaging/folders/mf06a.html
footprint MF06A_N (SOT23, 6-Leads, Body 2.9x1.6mm, Pitch 0.95mm, Lead Span 2.8mm, IPC Medium Density)
footprint MF06A_L (SOT23, 6-Leads, Body 2.9x1.6mm, Pitch 0.95mm, Lead Span 2.8mm, IPC High Density)
footprint MF06A_M (SOT23, 6-Leads, Body 2.9x1.6mm, Pitch 0.95mm, Lead Span 2.8mm, IPC Low Density)
pins: 1 V+ (power), 2 GND (power), 3 C1- (in), 4 SD (in), 5 OUT (power), 6 C1+ (in)

## LM2766M6
designator U?
Switched Capacitor Voltage Converter; PartNumber: LM2766M6; Manufacturer: National Semiconductor; CompType: Switch Caps; PackageTopMarking: S16B*XTT; PowerWise: N; Published: 4-Dec-2008; DatasheetVersion: Mar-2000; PackageVersion: revC, Sep-2005; PackageReference: MF06A; Publisher: Altium Limited; PackageDescription: Molded SOT-23, .115 x .063 x .040in Body, 6 Lead, .0375in in Pitch; RoHS: Y; PinCount: 6; DigiKeyPartNumber: LM2766M6CT-ND; Code_JEDEC: MO-178-AB; Code_IPC: SOT26A-6; ComponentLink1Description: LM2766 Datasheet; ComponentLink1URL: http://www.national.com/ds/LM/LM2766.pdf; ComponentLink2Description: LM2766 Web Page; ComponentLink2URL: http://www.national.com/pf/LM/LM2766.html; ComponentLink3Description: MF06A Package Page; ComponentLink3URL: http://www.national.com/packaging/folders/mf06a.html
footprint MF06A_N (SOT23, 6-Leads, Body 2.9x1.6mm, Pitch 0.95mm, Lead Span 2.8mm, IPC Medium Density)
footprint MF06A_L (SOT23, 6-Leads, Body 2.9x1.6mm, Pitch 0.95mm, Lead Span 2.8mm, IPC High Density)
footprint MF06A_M (SOT23, 6-Leads, Body 2.9x1.6mm, Pitch 0.95mm, Lead Span 2.8mm, IPC Low Density)
pins: 1 V+ (power), 2 GND (power), 3 C1- (in), 4 ~{SD} (in), 5 OUT (power), 6 C1+ (in)

## LM2767M5
designator U?
Switched Capacitor Voltage Converter; PartNumber: LM2767M5; Manufacturer: National Semiconductor; CompType: Switch Caps; PackageTopMarking: S17B*XTT; PowerWise: N; Published: 4-Dec-2008; DatasheetVersion: Feb-2000; PackageVersion: revD, Aug-2008; PackageReference: MF05A; Publisher: Altium Limited; PackageDescription: Molded SOT-23, .115 x .063 x .040 in Body, 5 Lead, .0375 in Pitch; RoHS: O; PinCount: 5; DigiKeyPartNumber: LM2767M5CT-ND; Code_IPC: SOT23-5; ComponentLink1Description: LM2767 Datasheet; ComponentLink1URL: http://www.national.com/ds/LM/LM2767.pdf; ComponentLink2Description: LM2767 Web Page; ComponentLink2URL: http://www.national.com/pf/LM/LM2767.html; ComponentLink3Description: MF05A Package Page; ComponentLink3URL: http://www.national.com/packaging/folders/mf05a.html
footprint MF05A_N (SOT23, 5-Leads, Body 2.9x1.6mm, Pitch 0.95mm, Lead Span 2.8mm, IPC Medium Density)
footprint MF05A_L (SOT23, 5-Leads, Body 2.9x1.6mm, Pitch 0.95mm, Lead Span 2.8mm, IPC High Density)
footprint MF05A_M (SOT23, 5-Leads, Body 2.9x1.6mm, Pitch 0.95mm, Lead Span 2.8mm, IPC Low Density)
pins: 1 OUT (power), 2 GND (power), 3 C1- (in), 4 V+ (power), 5 C1+ (in)

## LM2770SD-1215
designator U?
High Efficiency Switched Capacitor Step-Down DC/DC Regulator with Sleep Mode; PartNumber: LM2770SD-1215; Manufacturer: National Semiconductor; CompType: Switch Caps; PackageTopMarking: ZXYTT*L162B; PowerWise: N; Published: 4-Dec-2008; DatasheetVersion: Dec-2004; PackageVersion: revA, Oct-2003; PackageReference: SDA10A; Publisher: Altium Limited; PackageDescription: LLP, Plastic, Dual, 3 x 3 x 0.8mm Body, 10 Lead, 0.5mm Pitch, No Pullback; RoHS: Y; PinCount: 10; DigiKeyPartNumber: LM2770SD-1215CT-ND; ComponentLink1Description: LM2770 Datasheet; ComponentLink1URL: http://www.national.com/ds/LM/LM2770.pdf; ComponentLink2Description: LM2770 Web Page; ComponentLink2URL: http://www.national.com/pf/LM/LM2770.html; ComponentLink3Description: SDA10A Package Page; ComponentLink3URL: http://www.national.com/packaging/folders/sda10a.html
footprint SDA10A (SON, 10-Leads, Body 3x3 mm, Pitch 0.5mm, NSC Recommended)
pins: 1 VSEL (in), 2 EN (in), 3 C2+ (in), 4 GND (power), 5 C2- (in), 6 OUT (power), 7 C1- (in), 8 C1+ (in), 9 VIN (power), 10 SLEEP (in), 11 DAP (power)

## LM2770SD-12157
designator U?
High Efficiency Switched Capacitor Step-Down DC/DC Regulator with Sleep Mode; PartNumber: LM2770SD-12157; Manufacturer: National Semiconductor; CompType: Switch Caps; PackageTopMarking: ZXYTT*L166B; Published: 4-Dec-2008; DatasheetVersion: Dec-2004; PackageVersion: revA, Oct-2003; PackageReference: SDA10A; Publisher: Altium Limited; PackageDescription: LLP, Plastic, Dual, 3 x 3 x 0.8mm Body, 10 Lead, 0.5mm Pitch, No Pullback; RoHS: Y; PinCount: 10; DigiKeyPartNumber: LM2770SD-12157CT-ND; ComponentLink1Description: LM2770 Datasheet; ComponentLink1URL: http://www.national.com/ds/LM/LM2770.pdf; ComponentLink2Description: LM2770 Web Page; ComponentLink2URL: http://www.national.com/pf/LM/LM2770.html; ComponentLink3Description: SDA10A Package Page; ComponentLink3URL: http://www.national.com/packaging/folders/sda10a.html
footprint SDA10A (SON, 10-Leads, Body 3x3 mm, Pitch 0.5mm, NSC Recommended)
pins: 1 VSEL (in), 2 EN (in), 3 C2+ (in), 4 GND (power), 5 C2- (in), 6 OUT (power), 7 C1- (in), 8 C1+ (in), 9 VIN (power), 10 SLEEP (in), 11 DAP (power)

## LM2771SD
designator U?
Low-Ripple 250mA Switched Capacitor Step-Down DC/DC Converter; PartNumber: LM2771SD; Manufacturer: National Semiconductor; CompType: Switch Caps; PackageTopMarking: ZXYTT*L2771; PowerWise: N; Published: 4-Dec-2008; DatasheetVersion: Mar-2006; PackageVersion: revA, Oct-2003; PackageReference: SDA10A; Publisher: Altium Limited; PackageDescription: LLP, Plastic, Dual, 3 x 3 x 0.8mm Body, 10 Lead, 0.5mm Pitch, No Pullback; RoHS: Y; PinCount: 10; DigiKeyPartNumber: LM2771SDCT-ND; ComponentLink1Description: LM2771 Datasheet; ComponentLink1URL: http://www.national.com/ds/LM/LM2771.pdf; ComponentLink2Description: LM2771 Web Page; ComponentLink2URL: http://www.national.com/pf/LM/LM2771.html; ComponentLink3Description: SDA10A Package Page; ComponentLink3URL: http://www.national.com/packaging/folders/sda10a.html
footprint SDA10A (SON, 10-Leads, Body 3x3 mm, Pitch 0.5mm, NSC Recommended)
pins: 1 VIN (power), 2 GND (power), 3 VOUT (power), 4 NC, 5 NC, 6 C1- (in), 7 C1+ (in), 8 NC, 9 GND (power), 10 EN (in), 11 DAP (power)

## LM2772SD
designator U?
Low-Ripple Switched Capacitor Step-Down Regulator; PartNumber: LM2772SD; Manufacturer: National Semiconductor; CompType: Switch Caps; PackageTopMarking: ZXYTT*L2772; PowerWise: N; Published: 4-Dec-2008; DatasheetVersion: Dec-2006; PackageVersion: revA, Oct-2003; PackageReference: SDA10A; Publisher: Altium Limited; PackageDescription: LLP, Plastic, Dual, 3 x 3 x 0.8mm Body, 10 Lead, 0.5mm Pitch, No Pullback; RoHS: Y; PinCount: 10; DigiKeyPartNumber: LM2772SDCT-ND; ComponentLink1Description: LM2772 Datasheet; ComponentLink1URL: http://www.national.com/ds/LM/LM2772.pdf; ComponentLink2Description: LM2772 Web Page; ComponentLink2URL: http://www.national.com/pf/LM/LM2772.html; ComponentLink3Description: SDA10A Package Page; ComponentLink3URL: http://www.national.com/packaging/folders/sda10a.html
footprint SDA10A (SON, 10-Leads, Body 3x3 mm, Pitch 0.5mm, NSC Recommended)
pins: 1 VIN (power), 2 GND (power), 3 OUT (power), 4 C3- (in), 5 C3+ (in), 6 C2- (in), 7 C2+ (in), 8 C1- (in), 9 C1+ (in), 10 EN (in), 11 DAP (power)

## LM2773TL
designator U?
Low-Ripple 1.8V/1.6V Spread-Spectrum Switched Capacitor Step-Down Regulator; PartNumber: LM2773TL; Manufacturer: National Semiconductor; CompType: Switch Caps; PackageTopMarking: XV*I DJ; PowerWise: N; Published: 4-Dec-2008; DatasheetVersion: Jan-2008; PackageVersion: revC, Jan-2004; PackageReference: TLA09ZZA; Publisher: Altium Limited; PackageDescription: Thin Micro SMD, 9 Bump (Large), 0.5mm Pitch; RoHS: Y; PinCount: 9; DigiKeyPartNumber: LM2773TL-ND; Code_JEDEC: MO-211-DD; ComponentLink1Description: LM2773 Datasheet; ComponentLink1URL: http://www.national.com/ds/LM/LM2773.pdf; ComponentLink2Description: LM2773 Web Page; ComponentLink2URL: http://www.national.com/pf/LM/LM2773.html; ComponentLink3Description: TLA09ZZA Package Page; ComponentLink3URL: http://www.national.com/packaging/folders/tla09zza.html
footprint TLA09ZZA (Micro SMD, 9-Leads, Body 1.47x1.47mm, Pitch 0.5mm, NSC Recommended)
pins: A1 C2- (in), A2 OUT (power), A3 C1+ (in), B1 GND (power), B2 EN (in), B3 VIN (power), C1 SEL (in), C2 C1- (in), C3 C2+ (in)

## LM2781TP
designator U?
Ultra-Low Ripple Switched Capacitor Voltage Inverter; PartNumber: LM2781TP; Manufacturer: National Semiconductor; CompType: Switch Caps; PackageTopMarking: XV*I 12; PowerWise: N; Published: 4-Dec-2008; DatasheetVersion: Mar-2003; PackageVersion: revA, Mar-2002; PackageReference: TPA08DDA; Publisher: Altium Limited; PackageDescription: Thin Micro SMD, 8 Bump, 0.5mm Pitch; RoHS: O; PinCount: 8; DigiKeyPartNumber: LM2781TPCT-ND; Code_JEDEC: MO-211-BC; ComponentLink1Description: LM2781 Datasheet; ComponentLink1URL: http://www.national.com/ds/LM/LM2781.pdf; ComponentLink2Description: LM2781 Web Page; ComponentLink2URL: http://www.national.com/pf/LM/LM2781.html; ComponentLink3Description: TPA08DDA Package Page; ComponentLink3URL: http://www.national.com/packaging/folders/tpa08dda.html
footprint TPA08DDA (Micro SMD, 8-Leads, Body 1.36x1.36mm, Pitch 0.5mm, NSC Recommended)
pins: A1 C2+ (in), A2 SD (in), A3 C2- (in), B1 VIN (power), B3 OUT (power), C1 C1+ (in), C2 GND (power), C3 C1- (in)

## LM2787BP
designator U?
Low Noise Regulated Switched Capacitor Voltage Inverter in micro SMD; PartNumber: LM2787BP; Manufacturer: National Semiconductor; CompType: Switch Caps; PackageTopMarking: XVS*I 8; Published: 4-Dec-2008; DatasheetVersion: Apr-2003; PackageVersion: revC, Feb-2002; PackageReference: BPA08CCB; Publisher: Altium Limited; PackageDescription: Micro SMD, 8 Bump, 0.5mm Pitch; RoHS: N; PinCount: 8; DigiKeyPartNumber: LM2787BPCT-ND; Code_JEDEC: MO-211-BC; ComponentLink1Description: LM2787 Datasheet; ComponentLink1URL: http://www.national.com/ds/LM/LM2787.pdf; ComponentLink2Description: LM2787 Web Page; ComponentLink2URL: http://www.national.com/pf/LM/LM2787.html; ComponentLink3Description: BPA08CCB Package Page; ComponentLink3URL: http://www.national.com/packaging/folders/bpa08ccb.html
footprint BPA08CCB (Micro SMD, 8-Leads, Body 1.34x1.34mm, Pitch 0.5mm, NSC Recommended)
pins: A1 C1+ (in), A2 GND (power), A3 C1- (in), B1 VIN (power), B3 VNEG (power), C1 OUT (power), C2 VFB (in), C3 ~{SD} (in)

## LM2788MM-1.5
designator U?
120mA High Efficiency Step-Down Switched Capacitor Voltage Converter; PartNumber: LM2788MM-1.5; Manufacturer: National Semiconductor; CompType: Switch Caps; PackageTopMarking: ZXTT*S30B; Published: 4-Dec-2008; DatasheetVersion: Oct-2002; PackageVersion: revF, Apr-2008; PackageReference: MUA08A; Publisher: Altium Limited; PackageDescription: MINI SOIC, .118 x .118 x .034in, 8 Lead, .0256in Pitch; RoHS: Y; PinCount: 8; DigiKeyPartNumber: LM2788MM-1.5CT-ND; Code_JEDEC: MO-187-AA; ComponentLink1Description: LM2788 Datasheet; ComponentLink1URL: http://www.national.com/ds/LM/LM2788.pdf; ComponentLink2Description: LM2788 Web Page; ComponentLink2URL: http://www.national.com/pf/LM/LM2788.html; ComponentLink3Description: MUA08A Package Page; ComponentLink3URL: http://www.national.com/packaging/folders/mua08a.html
footprint MUA08A_N (TSOP, 8-Leads, Body 3x3mm, Pitch 0.65mm, IPC Medium Density)
footprint MUA08A_L (TSOP, 8-Leads, Body 3x3mm, Pitch 0.65mm, IPC High Density)
footprint MUA08A_M (TSOP, 8-Leads, Body 3x3mm, Pitch 0.65mm, IPC Low Density)
pins: 1 OUT (power), 2 C1- (in), 3 C1+ (in), 4 VIN (power), 5 EN (in), 6 C2+ (in), 7 GND (power), 8 C2- (in)

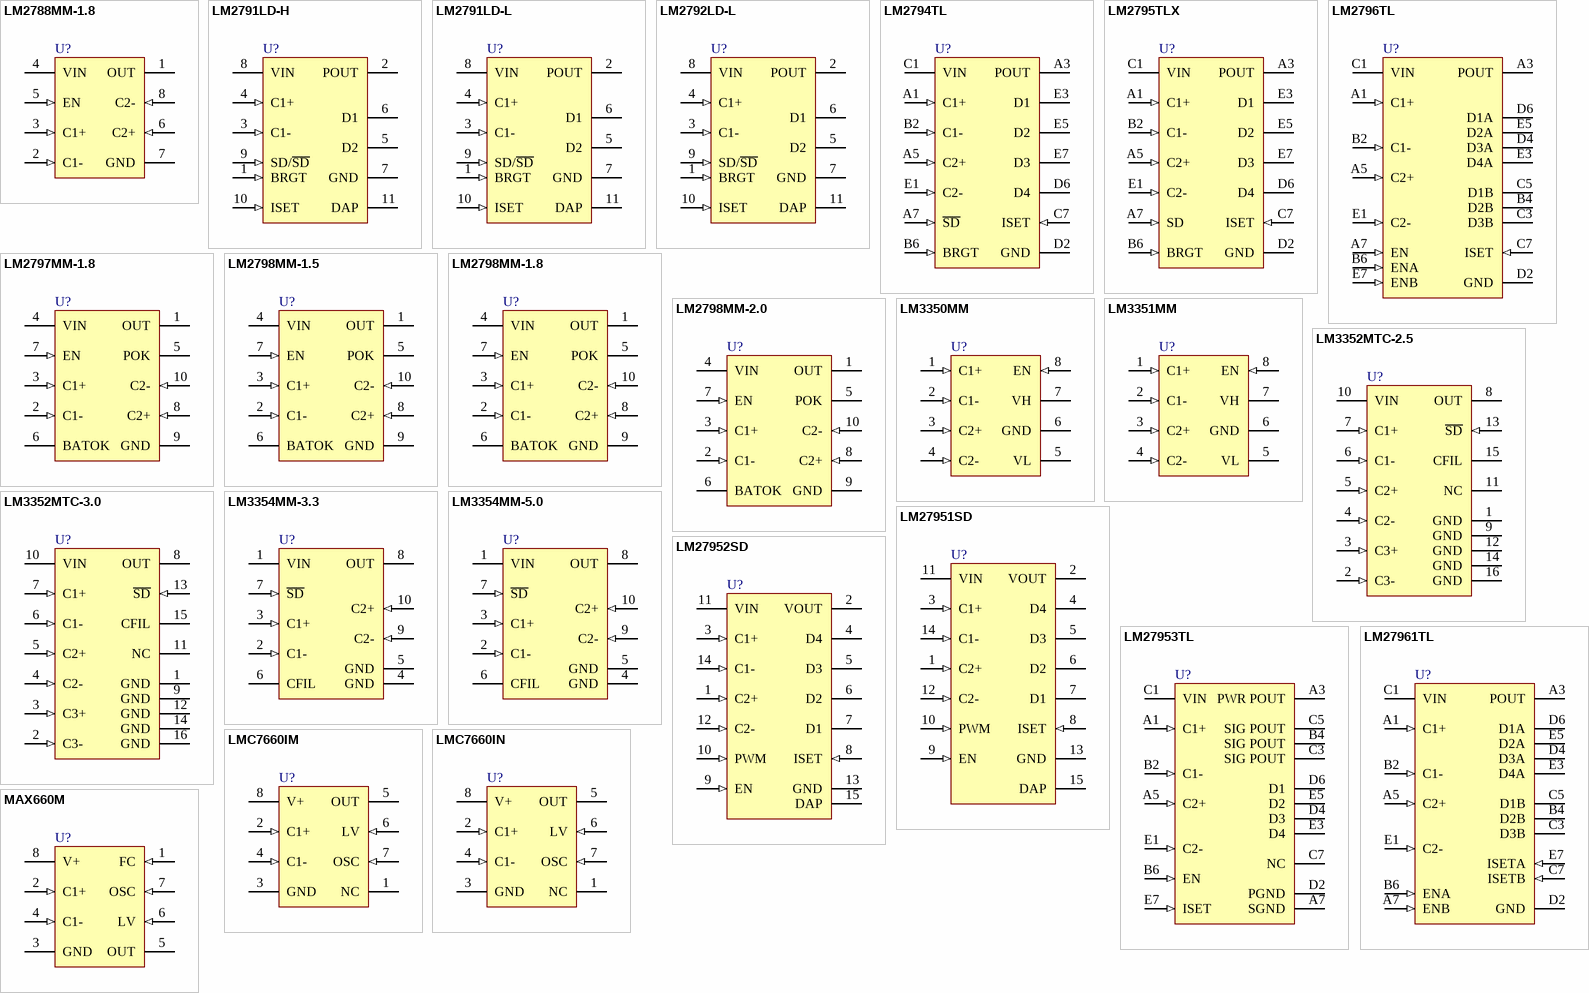
[diagram p1: symbols LM2788MM-1.8 to MAX660M]

## LM2788MM-1.8
designator U?
120mA High Efficiency Step-Down Switched Capacitor Voltage Converter; PartNumber: LM2788MM-1.8; Manufacturer: National Semiconductor; CompType: Switch Caps; PackageTopMarking: ZXTT*S23B; PowerWise: N; Published: 4-Dec-2008; DatasheetVersion: Oct-2002; PackageVersion: revF, Apr-2008; PackageReference: MUA08A; Publisher: Altium Limited; PackageDescription: MINI SOIC, .118 x .118 x .034in, 8 Lead, .0256in Pitch; RoHS: Y; PinCount: 8; DigiKeyPartNumber: LM2788MM-1.8CT-ND; Code_JEDEC: MO-187-AA; ComponentLink1Description: LM2788 Datasheet; ComponentLink1URL: http://www.national.com/ds/LM/LM2788.pdf; ComponentLink2Description: LM2788 Web Page; ComponentLink2URL: http://www.national.com/pf/LM/LM2788.html; ComponentLink3Description: MUA08A Package Page; ComponentLink3URL: http://www.national.com/packaging/folders/mua08a.html
footprint MUA08A_N (TSOP, 8-Leads, Body 3x3mm, Pitch 0.65mm, IPC Medium Density)
footprint MUA08A_L (TSOP, 8-Leads, Body 3x3mm, Pitch 0.65mm, IPC High Density)
footprint MUA08A_M (TSOP, 8-Leads, Body 3x3mm, Pitch 0.65mm, IPC Low Density)
pins: 1 OUT (power), 2 C1- (in), 3 C1+ (in), 4 VIN (power), 5 EN (in), 6 C2+ (in), 7 GND (power), 8 C2- (in)

## LM2791LD-H
designator U?
Current Regulated Switched Capacitor LED Driver with Analog Brightness Control; PartNumber: LM2791LD-H; Manufacturer: National Semiconductor; CompType: Switch Caps; PackageTopMarking: ZXYTT*SLB; Published: 4-Dec-2008; DatasheetVersion: Jul-2002; PackageVersion: revB, Jan-2003; PackageReference: LDA10A; Publisher: Altium Limited; PackageDescription: LLP, Plastic, Dual, 3 x 3 x 0.75mm Body, 10 Lead, 0.5mm Pitch; RoHS: Y; PinCount: 10; DigiKeyPartNumber: LM2791LD-HCT-ND; ComponentLink1Description: LM2791 Datasheet; ComponentLink1URL: http://www.national.com/ds/LM/LM2791.pdf; ComponentLink2Description: LM2791 Web Page; ComponentLink2URL: http://www.national.com/pf/LM/LM2791.html; ComponentLink3Description: LDA10A Package Page; ComponentLink3URL: http://www.national.com/packaging/folders/lda10a.html
footprint LDA10A (PSON, 10-Leads, Body 3x3mm, Pitch 0.5mm, NSC Recommended)
pins: 1 BRGT (in), 2 POUT (power), 3 C1- (in), 4 C1+ (in), 5 D2 (oc), 6 D1 (oc), 7 GND (power), 8 VIN (power), 9 SD/~{SD} (in), 10 ISET (in), 11 DAP (power)

## LM2791LD-L
designator U?
Current Regulated Switched Capacitor LED Driver with Analog Brightness Control; PartNumber: LM2791LD-L; Manufacturer: National Semiconductor; CompType: Switch Caps; PackageTopMarking: ZXYTT*SNB; PowerWise: N; Published: 4-Dec-2008; DatasheetVersion: Jul-2002; PackageVersion: revB, Jan-2003; PackageReference: LDA10A; Publisher: Altium Limited; PackageDescription: LLP, Plastic, Dual, 3 x 3 x 0.75mm Body, 10 Lead, 0.5mm Pitch; RoHS: O; PinCount: 10; DigiKeyPartNumber: LM2791LD-LCT-ND; ComponentLink1Description: LM2791 Datasheet; ComponentLink1URL: http://www.national.com/ds/LM/LM2791.pdf; ComponentLink2Description: LM2791 Web Page; ComponentLink2URL: http://www.national.com/pf/LM/LM2791.html; ComponentLink3Description: LDA10A Package Page; ComponentLink3URL: http://www.national.com/packaging/folders/lda10a.html
footprint LDA10A (PSON, 10-Leads, Body 3x3mm, Pitch 0.5mm, NSC Recommended)
pins: 1 BRGT (in), 2 POUT (power), 3 C1- (in), 4 C1+ (in), 5 D2 (oc), 6 D1 (oc), 7 GND (power), 8 VIN (power), 9 SD/~{SD} (in), 10 ISET (in), 11 DAP (power)